# EAGLE library part MAX485-BREAKOUT (library MAX485-BREAKOUT)
MAX485 TTL UART to Modbus RTU Transceiver Module Breakout
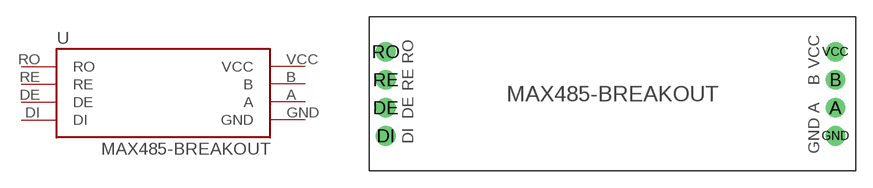
[diagram p0: symbol with the pads of MAX485-BREAKOUT; footprint MAX485-BREAKOUT]

Designator prefix U

## MAX485-BREAKOUT  [MAX485-BREAKOUT]
A  A
B  B
DE  DE
DI  DI
GND  GND
RE  RE
RO  RO
VCC  VCC

## Footprint MAX485-BREAKOUT (pad centres in mm)
drill 1 pad 1.778: A 20.15,-1.27; B 20.15,1.27; DE -20.49,-1.27; DI -20.49,-3.81; GND 20.15,-3.81; RE -20.49,1.27; RO -20.49,3.81; VCC 20.15,3.81